# Altium footprint library MicroSD_Connector.PcbLib: 1 footprints
Each footprint in its own frame and in the unit in brackets; x right, y up, seen from the top. Pads: shape width x height; smd on the part's side, far side on the other; paste and mask are expansions set on the pad; w line width, h text height; cw(c..) or ccw(c..) is an arc to the next point about the centre after c.
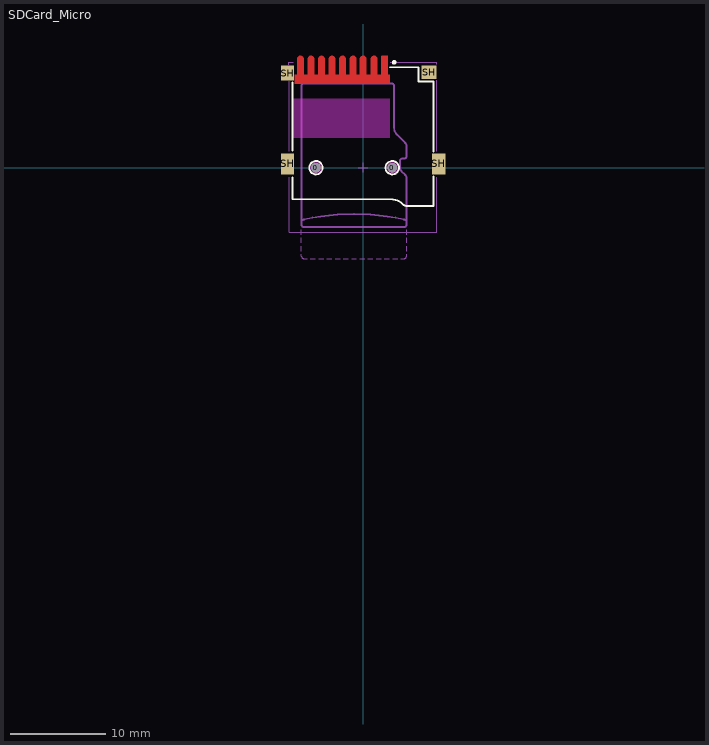
[diagram p0: the footprint, top view; thin cyan lines are the x and y axes]

## SDCard_Micro [mm] "Micro SD Card, TF Card, Memory Card Connector, 9-Leads, Body 16.44x15.6 mm, 1.4mm Profile SMT, Push-Push (MEM2055/MEM2075)"
height 1.85
pads (15):
  round 1 hole 1: 0(-4.93,0) 0(3.05,0)
  round 0.025 smd: 1(2.25,10.7) 2(1.15,10.7) 3(0,10.7) 4(-1.05,10.7) 5(-2.15,10.7) 6(-3.25,10.7) 7(-4.35,10.7) 8(-5.45,10.7) 9(-6.55,10.7)
  rect 1.4x2.2 smd: SH(-7.9,0.4) SH(7.9,0.4)
  rect 1.4x1.6 smd: SH(-7.9,9.9)
  rect 1.6x1.4 smd: SH(6.9,10)
Top Layer:
  pour cut-out: -7.15,9.7 2.794,9.7 2.794,8.8 -7.15,8.8
  region: -6.2,9.7 -6.9,9.7 -6.9,11.35 -6.9,11.384 -6.887,11.452 -6.86,11.516 -6.822,11.573 -6.773,11.622 -6.716,11.66 -6.652,11.687 -6.584,11.7 -6.55,11.7 -6.516,11.7 -6.448,11.687 -6.384,11.66 -6.327,11.622 -6.278,11.573 -6.24,11.516 -6.213,11.452 -6.2,11.384 -6.2,11.35
  region: -5.1,9.7 -5.8,9.7 -5.8,11.35 -5.8,11.384 -5.787,11.452 -5.76,11.516 -5.722,11.573 -5.673,11.622 -5.616,11.66 -5.552,11.687 -5.484,11.7 -5.45,11.7 -5.416,11.7 -5.348,11.687 -5.284,11.66 -5.227,11.622 -5.178,11.573 -5.14,11.516 -5.113,11.452 -5.1,11.384 -5.1,11.35
  region: -4,9.7 -4.7,9.7 -4.7,11.35 -4.7,11.384 -4.687,11.452 -4.66,11.516 -4.622,11.573 -4.573,11.622 -4.516,11.66 -4.452,11.687 -4.384,11.7 -4.35,11.7 -4.316,11.7 -4.248,11.687 -4.184,11.66 -4.127,11.622 -4.078,11.573 -4.04,11.516 -4.013,11.452 -4,11.384 -4,11.35
  region: -2.9,9.7 -3.6,9.7 -3.6,11.35 -3.6,11.384 -3.587,11.452 -3.56,11.516 -3.522,11.573 -3.473,11.622 -3.416,11.66 -3.352,11.687 -3.284,11.7 -3.25,11.7 -3.216,11.7 -3.148,11.687 -3.084,11.66 -3.027,11.622 -2.978,11.573 -2.94,11.516 -2.913,11.452 -2.9,11.384 -2.9,11.35
  region: -1.8,9.7 -2.5,9.7 -2.5,11.35 -2.5,11.384 -2.487,11.452 -2.46,11.516 -2.422,11.573 -2.373,11.622 -2.316,11.66 -2.252,11.687 -2.184,11.7 -2.15,11.7 -2.116,11.7 -2.048,11.687 -1.984,11.66 -1.927,11.622 -1.878,11.573 -1.84,11.516 -1.813,11.452 -1.8,11.384 -1.8,11.35
  region: -0.7,9.7 -1.4,9.7 -1.4,11.35 -1.4,11.384 -1.387,11.452 -1.36,11.516 -1.322,11.573 -1.273,11.622 -1.216,11.66 -1.152,11.687 -1.084,11.7 -1.05,11.7 -1.016,11.7 -0.948,11.687 -0.884,11.66 -0.827,11.622 -0.778,11.573 -0.74,11.516 -0.713,11.452 -0.7,11.384 -0.7,11.35
  region: 0.35,9.7 -0.35,9.7 -0.35,11.35 -0.35,11.384 -0.337,11.452 -0.31,11.516 -0.272,11.573 -0.223,11.622 -0.166,11.66 -0.102,11.687 -0.034,11.7 0,11.7 0.034,11.7 0.102,11.687 0.166,11.66 0.223,11.622 0.272,11.573 0.31,11.516 0.337,11.452 0.35,11.384 0.35,11.35
  region: 1.5,9.7 0.8,9.7 0.8,11.35 0.8,11.384 0.813,11.452 0.84,11.516 0.878,11.573 0.927,11.622 0.984,11.66 1.048,11.687 1.116,11.7 1.15,11.7 1.184,11.7 1.252,11.687 1.316,11.66 1.373,11.622 1.422,11.573 1.46,11.516 1.487,11.452 1.5,11.384 1.5,11.35
  region: 2.6,9.7 1.9,9.7 1.9,11.613 1.9,11.63 1.913,11.662 1.938,11.687 1.97,11.7 1.987,11.7 2.513,11.7 2.53,11.7 2.562,11.687 2.587,11.662 2.6,11.63 2.6,11.613
Top Overlay:
  circle w0.24: c3.25,11.02 r0.12
  circle w0.2: c3.05,0 r0.7
  circle w0.2: c-4.93,0 r0.7
  lines w0.2: -7.375,-1 -7.375,-3.3 2.91,-3.3 cw(c2.91,-5.074) 4.165,-3.82 ccw(c4.6,-3.384) 4.6,-4 7.375,-4 7.375,-0.9 ; -7.375,1.8 -7.375,8.922 ; 2.8,10.5 5.8,10.5 5.8,9 7.375,9 7.375,1.7
Keep-Out Layer:
  circle w0.254: c-4.93,0 r0.5
  circle w0.254: c3.05,0 r0.5
  region: -7.39,3.15 -7.39,7.2 2.81,7.2 2.81,3.15
Mechanical 13:
  lines w0.125: -6.45,-9.057 -6.45,-9.246 ccw(c-6.196,-9.246) -6.196,-9.5 -5.85,-9.5 ; -6.45,-8.717 -6.45,-8.197 ; -6.45,-7.857 -6.45,-7.337 ; -6.45,-6.997 -6.45,-6.477 ; -5.51,-9.5 -4.99,-9.5 ; -4.65,-9.5 -4.13,-9.5 ; -3.79,-9.5 -3.27,-9.5 ; -2.93,-9.5 -2.41,-9.5 ; -2.07,-9.5 -1.55,-9.5 ; -1.21,-9.5 -0.69,-9.5 ; -0.35,-9.5 0.17,-9.5 ; 0.51,-9.5 1.03,-9.5 ; 1.37,-9.5 1.89,-9.5 ; 2.23,-9.5 2.75,-9.5 ; 3.09,-9.5 3.61,-9.5 ; 3.95,-9.5 4.296,-9.5 ccw(c4.296,-9.246) 4.55,-9.246 4.55,-9.057 ; 4.55,-8.717 4.55,-8.197 ; 4.55,-7.857 4.55,-7.337 ; 4.55,-6.997 4.55,-6.477
  lines w0.2: -6.437,-5.553 cw(c-6.027,-5.964) -6.148,-5.396 cw(c-0.95,-29.85) 4.248,-5.396 cw(c4.127,-5.964) 4.537,-5.553 ; 3.85,-0.022 3.85,0.696 cw(c4.104,0.696) 4.104,0.95 4.296,0.95 ccw(c4.296,1.204) 4.55,1.204 4.55,2.24 ccw(c4.042,2.24) 4.401,2.599 3.55,3.45 cw(c4.274,4.174) 3.25,4.174 3.25,8.546 ccw(c2.996,8.546) 2.996,8.8 -6.196,8.8 ccw(c-6.196,8.546) -6.45,8.546 -6.45,-5.946 ccw(c-6.196,-5.946) -6.196,-6.2 4.296,-6.2 ccw(c4.296,-5.946) 4.55,-5.946 4.55,-4 4.55,-1.11 ; 3.85,0.01 ccw(c4.358,0.01) 3.999,-0.349 4.401,-0.751 cw(c4.042,-1.11) 4.55,-1.11 ; 4.55,-1.11 ccw(c4.55,-1.11) 4.55,-1.11
Mechanical 15:
  lines w0.1: -7.75,10.77 -7.75,11.02 -7.28,11.02 ; -7.7,-1 -7.7,-6.731 7.7,-6.731 7.7,-0.98 ; -7.7,1.72 -7.7,9.03 ; -0.5,0 0.5,0 ; 0,-0.5 0,0.5 ; 2.82,11.02 7.7,11.02 7.7,10.84 ; 7.7,1.74 7.7,9.16
Drill Drawing:
  circle w0.254: c3.05,0 r0.5
  circle w0.254: c-4.93,0 r0.5
3D body "MicroSD.step": height 1.9, standoff -0.55, extent -8.001,-6.261 7.999,11.27
3D body "User Library-MEM2055-00-190-01-A_revG.STEP": height 1.9, standoff -0.55, extent -7.952,-3.978 8.048,11.272